# Altium footprint library CONN-SPE-DISPLAY_PORT_DP1RD20JQ1R400_JAE.PcbLib: 1 footprints
Each footprint in its own frame and in the unit in brackets; x right, y up, seen from the top. Pads: shape width x height; smd on the part's side, far side on the other; paste and mask are expansions set on the pad; w line width, h text height; cw(c..) or ccw(c..) is an arc to the next point about the centre after c.
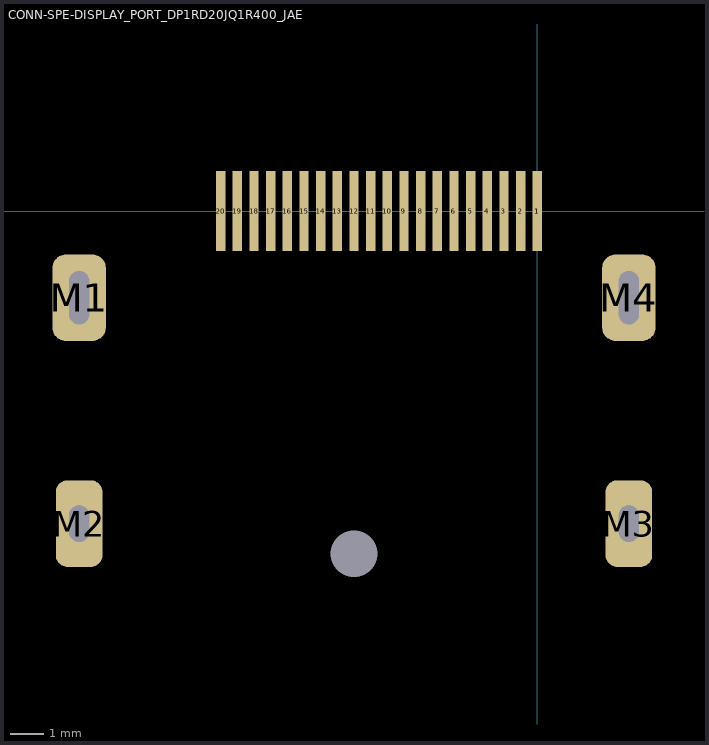
[diagram p0: the footprint, top view; thin cyan lines are the x and y axes]

## CONN-SPE-DISPLAY_PORT_DP1RD20JQ1R400_JAE [mm]
height 5.33
pads (26):
  rect 0.28x2.4 smd: 1(0,0) 1(0,0) 2(-0.5,0) 3(-1,0) 4(-1.5,0) 5(-2,0) 6(-2.5,0) 7(-3,0) 8(-3.5,0) 9(-4,0) 10(-4.5,0) 11(-5,0) 12(-5.5,0) 13(-6,0) 14(-6.5,0) 15(-7,0) 16(-7.5,0) 17(-8,0) 18(-8.5,0) 19(-9,0) 20(-9.5,0)
  rrect50% 1.6x2.6 hole 0.6 slot 1.6 at 90 deg: M1(-13.75,-2.6) M4(2.75,-2.6)
  rrect50% 1.4x2.6 hole 0.6 slot 1.1 at 90 deg: M2(-13.75,-9.38) M3(2.75,-9.38)
  round 0.8 hole 1.4: ""(-5.5,-10.28)
3D body: height 6.65, standoff -2.1, extent -14.376,-17.885 3.409,0.305